# EAGLE library part N40P107 (library EasyPoint)
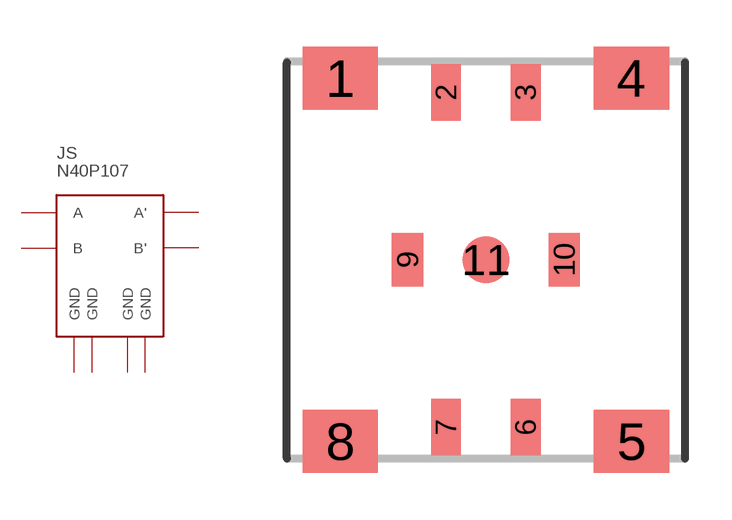
[diagram p0: symbol with the pads of N40P107; footprint N40P107]

Designator prefix JS

## N40P107  [N40P107]
1  GND
2  A
3  B
4  GND
5  GND
6  B'
7  A'
8  GND

## Footprint N40P107 (pad centres in mm)
smd 2.4 x 2: 1 -4.65,5.8; 4 4.65,5.8; 5 4.65,-5.8; 8 -4.65,-5.8
smd 0.95 x 1.8: 2 -1.27,5.35; 3 1.27,5.35; 6 1.27,-5.35; 7 -1.27,-5.35
smd 1 x 1.7: 9 -2.5,0; 10 2.5,0
smd 1.5 x 1.5: 11 0,0